# Altium footprint library AltiumV15.PcbLib: 3 footprints
Each footprint in its own frame and in the unit in brackets; x right, y up, seen from the top. Pads: shape width x height; smd on the part's side, far side on the other; paste and mask are expansions set on the pad; w line width, h text height; cw(c..) or ccw(c..) is an arc to the next point about the centre after c.
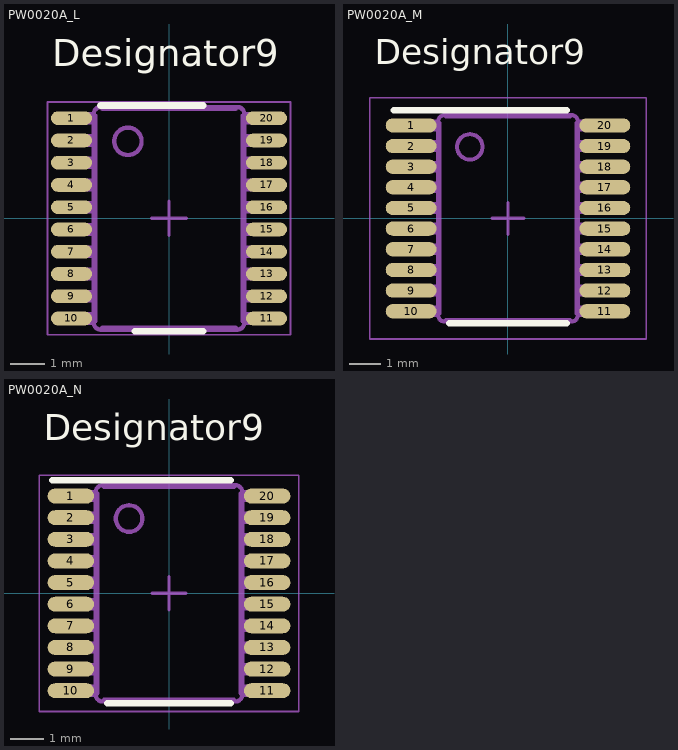
[diagram p0: the footprints below, top view; thin cyan lines are the x and y axes]

## PW0020A_L [mm]
pads (20):
  oval 1.2x0.4 all layers, no hole: 1(-2.85,2.925) 2(-2.85,2.275) 3(-2.85,1.625) 4(-2.85,0.975) 5(-2.85,0.325) 6(-2.85,-0.325) 7(-2.85,-0.975) 8(-2.85,-1.625) 9(-2.85,-2.275) 10(-2.85,-2.925) 11(2.85,-2.925) 12(2.85,-2.275) 13(2.85,-1.625) 14(2.85,-0.975) 15(2.85,-0.325) 16(2.85,0.325) 17(2.85,0.975) 18(2.85,1.625) 19(2.85,2.275) 20(2.85,2.925)
Top Overlay:
  lines w0.2: -2,3.3 1,3.3 ; -1,-3.3 1,-3.3
  text "Designator9" at -3.404,4.445 h0.79
Outline:
  drawing of 254 lines, arcs and shapes, not listed
  text ".Designator" at -0.45,1.8 h0.79
Courtyard Bottom:
  drawing of 260 lines, arcs and shapes, not listed
  text ".Designator" at -0.45,1.8 h0.79

## PW0020A_M [mm]
pads (20):
  oval 1.6x0.45 all layers, no hole: 1(-3.05,2.925) 2(-3.05,2.275) 3(-3.05,1.625) 4(-3.05,0.975) 5(-3.05,0.325) 6(-3.05,-0.325) 7(-3.05,-0.975) 8(-3.05,-1.625) 9(-3.05,-2.275) 10(-3.05,-2.925) 11(3.05,-2.925) 12(3.05,-2.275) 13(3.05,-1.625) 14(3.05,-0.975) 15(3.05,-0.325) 16(3.05,0.325) 17(3.05,0.975) 18(3.05,1.625) 19(3.05,2.275) 20(3.05,2.925)
Top Overlay:
  lines w0.2: -3.6,3.4 1.85,3.4 ; -1.85,-3.3 1.85,-3.3
  text "Designator9" at -4.191,4.851 h0.79
Outline:
  drawing of 254 lines, arcs and shapes, not listed
  text ".Designator" at -0.45,1.8 h0.79
Courtyard Bottom:
  drawing of 260 lines, arcs and shapes, not listed
  text ".Designator" at -0.45,1.8 h0.79

## PW0020A_N [mm]
pads (20):
  oval 1.4x0.45 all layers, no hole: 1(-2.95,2.925) 2(-2.95,2.275) 3(-2.95,1.625) 4(-2.95,0.975) 5(-2.95,0.325) 6(-2.95,-0.325) 7(-2.95,-0.975) 8(-2.95,-1.625) 9(-2.95,-2.275) 10(-2.95,-2.925) 11(2.95,-2.925) 12(2.95,-2.275) 13(2.95,-1.625) 14(2.95,-0.975) 15(2.95,-0.325) 16(2.95,0.325) 17(2.95,0.975) 18(2.95,1.625) 19(2.95,2.275) 20(2.95,2.925)
Top Overlay:
  lines w0.2: -3.5,3.4 1.85,3.4 ; -1.85,-3.3 1.85,-3.3
  text "Designator9" at -3.759,4.597 h0.79
Outline:
  drawing of 254 lines, arcs and shapes, not listed
  text ".Designator" at -0.45,1.8 h0.79
Courtyard Bottom:
  drawing of 260 lines, arcs and shapes, not listed
  text ".Designator" at -0.45,1.8 h0.79